# Altium footprint library EGB220.PcbLib: 1 footprints
Each footprint in its own frame and in the unit in brackets; x right, y up, seen from the top. Pads: shape width x height; smd on the part's side, far side on the other; paste and mask are expansions set on the pad; w line width, h text height; cw(c..) or ccw(c..) is an arc to the next point about the centre after c.
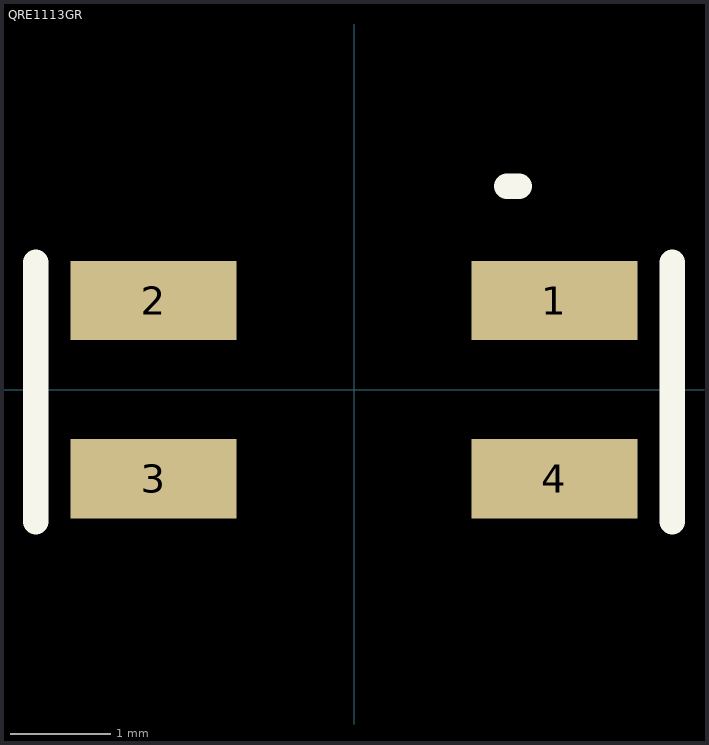
[diagram p0: the footprint, top view; thin cyan lines are the x and y axes]

## QRE1113GR [mm] "Miniature Reflective Object Sensor"
pads (4):
  rect 1.66x0.79 smd: 1(2,0.889) 2(-2,0.889) 3(-2,-0.889) 4(2,-0.889)
Top Overlay:
  lines w0.254: -3.175,-1.32 -3.175,1.27 ; 1.524,2.032 1.651,2.032 ; 3.175,-1.32 3.175,1.27
3D body: height 1.6, standoff 0, extent -1.346,-1.778 1.346,1.778